# Altium footprint library FDD8453LZ.PCBLIB: 1 footprints
Each footprint in its own frame and in the unit in brackets; x right, y up, seen from the top. Pads: shape width x height; smd on the part's side, far side on the other; paste and mask are expansions set on the pad; w line width, h text height; cw(c..) or ccw(c..) is an arc to the next point about the centre after c.
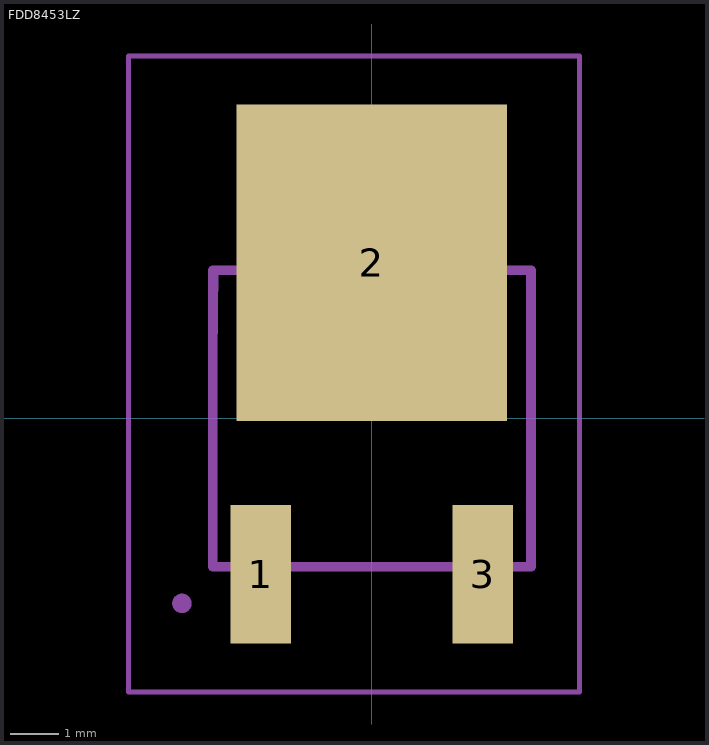
[diagram p0: the footprint, top view; thin cyan lines are the x and y axes]

## FDD8453LZ [mil]
pads (3):
  rect 49.21x112.2 smd: 1(-89.76,-125.98) 3(89.76,-125.98)
  rect 218.5x255.91 smd: 2(0,125.98)
tDocu:
  lines w3.94: -196.85,-221.46 168.11,-221.46 168.11,293.31 -196.85,293.31 -196.85,-221.46
  lines w7.87: -128.74,-119.96 128.74,-119.96 128.74,119.96 -128.74,119.96 -128.74,-119.96
tPlace:
  lines w3.94: -128.74,-119.96 -125.98,119.96 ; -55.12,-119.96 55.12,-119.96 ; 128.74,-119.96 128.74,119.96
  lines w7.87: -157.48,-149.61 -157.48,-149.61 ; -157.48,-149.61 ccw(c-153.54,-149.61) -149.61,-149.61 ; -157.48,-149.61 cw(c-153.54,-149.61) -149.61,-149.61 ; -149.61,-149.61 -149.61,-149.61